# EAGLE library part FTMH-140-02-L-DV-ES-P-TR (library MOTO_LIB)
MICRO SOCKET, 1.0MM, SMD, 2X40WAY, MALE
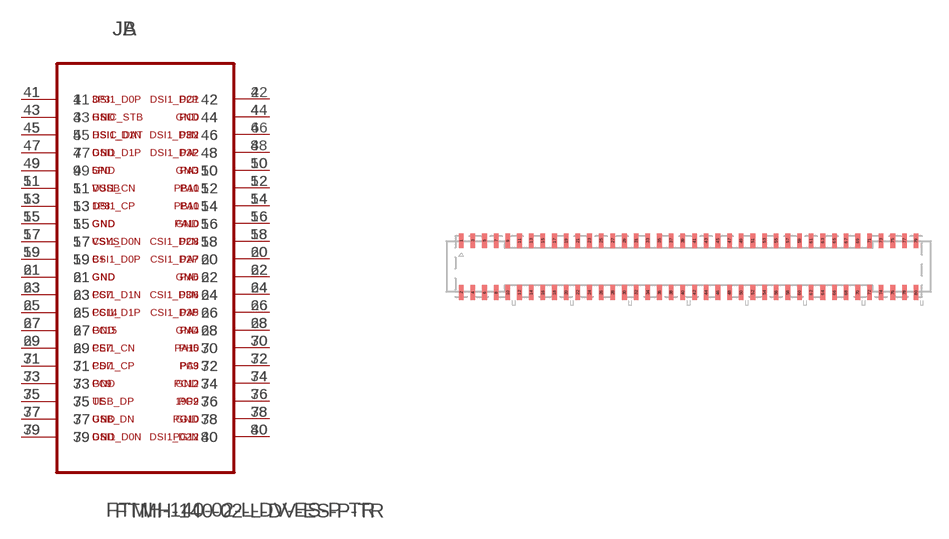
[diagram p12: symbol with the pads of FTMH-140-02-L-DV-ES-P-TR; footprint FTMH-140-02-L-DV-ES-P-TR]

Designator prefix J; gates A=FTMH-140-02-L-DV-ES-P-TR_A B=FTMH-140-02-L-DV-ES-P-TR_B

## FTMH-140-02-L-DV-ES-P-TR (MPN: ASP-193073-01; SUPPLIER: SAMTEC)  [FTMH-140-02-L-DV-ES-P-TR]
1  A:1  pas
2  A:2  pas
3  A:3  pas
4  A:4  pas
5  A:5  pas
6  A:6  pas
7  A:7  pas
8  A:8  pas
9  A:9  pas
10  A:10  pas
11  A:11  pas
12  A:12  pas
13  A:13  pas
14  A:14  pas
15  A:15  pas
16  A:16  pas
17  A:17  pas
18  A:18  pas
19  A:19  pas
20  A:20  pas
21  A:21  pas
22  A:22  pas
23  A:23  pas
24  A:24  pas
25  A:25  pas
26  A:26  pas
27  A:27  pas
28  A:28  pas
29  A:29  pas
30  A:30  pas
31  A:31  pas
32  A:32  pas
33  A:33  pas
34  A:34  pas
35  A:35  pas
36  A:36  pas
37  A:37  pas
38  A:38  pas
39  A:39  pas
40  A:40  pas
41  B:41  pas
42  B:42  pas
43  B:43  pas
44  B:44  pas
45  B:45  pas
46  B:46  pas
47  B:47  pas
48  B:48  pas
49  B:49  pas
50  B:50  pas
51  B:51  pas
52  B:52  pas
53  B:53  pas
54  B:54  pas
55  B:55  pas
56  B:56  pas
57  B:57  pas
58  B:58  pas
59  B:59  pas
60  B:60  pas
61  B:61  pas
62  B:62  pas
63  B:63  pas
64  B:64  pas
65  B:65  pas
66  B:66  pas
67  B:67  pas
68  B:68  pas
69  B:69  pas
70  B:70  pas
71  B:71  pas
72  B:72  pas
73  B:73  pas
74  B:74  pas
75  B:75  pas
76  B:76  pas
77  B:77  pas
78  B:78  pas
79  B:79  pas
80  B:80  pas

## Footprint FTMH-140-02-L-DV-ES-P-TR (pad centres in mm)
smd 0.4 x 1.263: 1 -19.5,2.223; 2 -19.5,-2.223; 3 -18.5,2.223; 4 -18.5,-2.223; 5 -17.5,2.223; 6 -17.5,-2.223; 7 -16.5,2.223; 8 -16.5,-2.223; 9 -15.5,2.223; 10 -15.5,-2.223; 11 -14.5,2.223; 12 -14.5,-2.223; 13 -13.5,2.223; 14 -13.5,-2.223; 15 -12.5,2.223; 16 -12.5,-2.223; 17 -11.5,2.223; 18 -11.5,-2.223; 19 -10.5,2.223; 20 -10.5,-2.223; 21 -9.5,2.223; 22 -9.5,-2.223; 23 -8.5,2.223; 24 -8.5,-2.223; 25 -7.5,2.223; 26 -7.5,-2.223; 27 -6.5,2.223; 28 -6.5,-2.223; 29 -5.5,2.223; 30 -5.5,-2.223; 31 -4.5,2.223; 32 -4.5,-2.223; 33 -3.5,2.223; 34 -3.5,-2.223; 35 -2.5,2.223; 36 -2.5,-2.223; 37 -1.5,2.223; 38 -1.5,-2.223; 39 -0.5,2.223; 40 -0.5,-2.223; 41 0.5,2.223; 42 0.5,-2.223; 43 1.5,2.223; 44 1.5,-2.223; 45 2.5,2.223; 46 2.5,-2.223; 47 3.5,2.223; 48 3.5,-2.223; 49 4.5,2.223; 50 4.5,-2.223; 51 5.5,2.223; 52 5.5,-2.223; 53 6.5,2.223; 54 6.5,-2.223; 55 7.5,2.223; 56 7.5,-2.223; 57 8.5,2.223; 58 8.5,-2.223; 59 9.5,2.223; 60 9.5,-2.223; 61 10.5,2.223; 62 10.5,-2.223; 63 11.5,2.223; 64 11.5,-2.223; 65 12.5,2.223; 66 12.5,-2.223; 67 13.5,2.223; 68 13.5,-2.223; 69 14.5,2.223; 70 14.5,-2.223; 71 15.5,2.223; 72 15.5,-2.223; 73 16.5,2.223; 74 16.5,-2.223; 75 17.5,2.223; 76 17.5,-2.223; 77 18.5,2.223; 78 18.5,-2.223; 79 19.5,2.223; 80 19.5,-2.223